# Altium schematic symbol library SCH - MISC - TE0790-JB.SCHLIB: 1 symbol
Pins are listed as number, name and electrical type; pins without a type are passive.

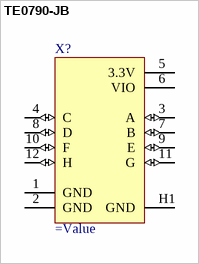
[diagram p0: symbol TE0790-JB]

## TE0790-JB
designator X?
TE0790-Base
pins: 1 GND (power), 2 GND (power), 3 A (io), 4 C (io), 5 3.3V (power), 6 VIO (power), 7 B (io), 8 D (io), 9 E (io), 10 F (io), 11 G (io), 12 H (io), H1 GND (power)